# Altium footprint library D_BI_0402_1005.PcbLib: 1 footprints
Each footprint in its own frame and in the unit in brackets; x right, y up, seen from the top. Pads: shape width x height; smd on the part's side, far side on the other; paste and mask are expansions set on the pad; w line width, h text height; cw(c..) or ccw(c..) is an arc to the next point about the centre after c.
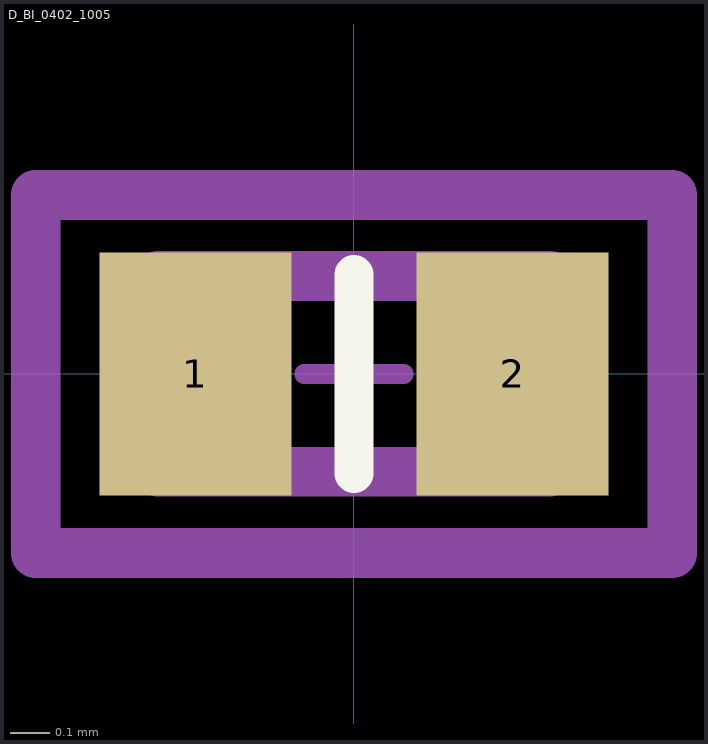
[diagram p0: the footprint, top view; thin cyan lines are the x and y axes]

## D_BI_0402_1005 [mm]
pads (2):
  rect 0.49x0.62 smd: 1(-0.405,0) 2(0.405,0)
Top Overlay:
  lines w0.1: 0,-0.254 0,0.254
Mechanical 13:
  lines w0.127: -0.5,-0.25 -0.5,0.25 0.5,0.25 0.5,-0.25 -0.5,-0.25
Mechanical 15:
  lines w0.051: -0.127,0 0.127,0 ; 0,-0.127 0,0.127
  lines w0.127: -0.813,-0.457 0.813,-0.457 0.813,0.457 -0.813,0.457 -0.813,-0.457
Mechanical 17:
  text ".Designator" at -0.356,-0.127 h0.25
Mechanical 19:
  text "'.Comment'" at -0.33,-0.127 h0.25
3D body "diode_bi_0402.step": height 0.48, standoff -0.02, extent -0.5,-0.3 0.5,0.3